# Altium integrated library Analog Devices Data Converters Digital-to-Analog Converters.IntLib: 2231 symbols (part 39 of 181)
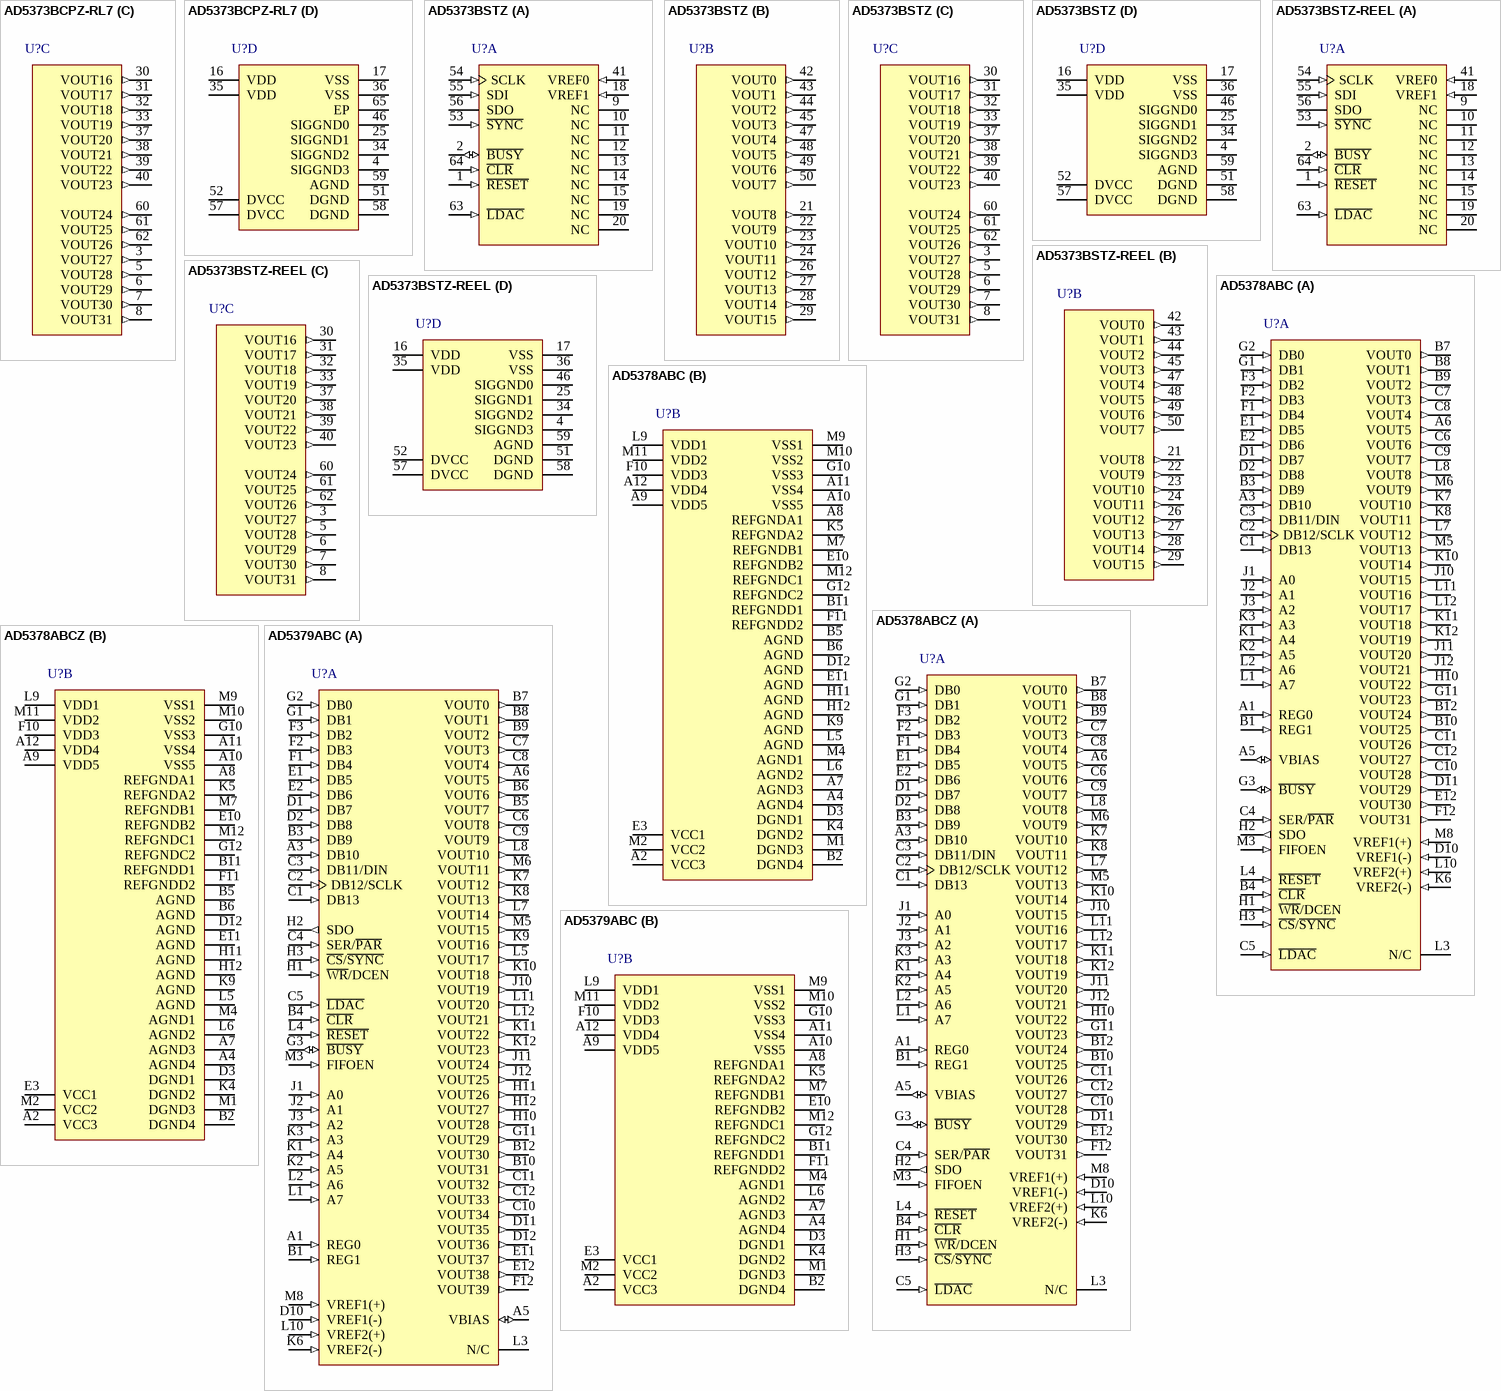
[diagram p152: symbols AD5373BCPZ-RL7 to AD5379ABC]

## AD5379ABC
designator U?
40 Channel 14-Bit Bipolar Voltage Output Digital-to-Analog Converter with Parallel and Serial Interface, -40 to +85 degC, BC-108-2, Tray; Generic Part Number: AD5379; Manufacturer: Analog Devices; PartNumber: AD5379ABC; # DAC Outputs: 40; Max V+: 12.6V; Resolution (Bits): 14; Settling Time: 20µs; Single Supply: No; DatasheetVersion: Rev.B; PackageVersion: 012006-0; PackageReference: BC-108-2; PackageDescription: 108-Ball Chip Scale Package Ball Grid Array [CSP_BGA]; Supplier 1: Digi-Key; Supplier Part Number 1: AD5379ABC-ND; Supplier 2: Mouser; Supplier Part Number 2: 584-AD5379ABC; Packing: Tray; RoHS: N; Mounting Technology: Surface Mount; Code_JEDEC: MO-192-AAD-1; ComponentLink1Description: Manufacturer URL; ComponentLink1URL: http://www.analog.com/en/index.html; ComponentLink2Description: Datasheet; ComponentLink2URL: http://www.analog.com/static/imported-files/data_sheets/AD5379.pdf; ComponentLink3Description: Package Specification; ComponentLink3URL: http://www.analog.com/static/imported-files/packages/PKG_PDF/CSPBGA%20(BC)/BC_108_2.pdf; ComponentLink4Description: Product URL; ComponentLink4URL: http://www.analog.com/en/digital-to-analog-converters/da-converters/ad5379/products/product.html
footprint BC-108-2 (BGA, 108-Leads, Body 13x13mm, Pitch 1mm)
part A pins: A1 REG0 (in) "Parallel Interface Register Select Input. This pin is used together with REG1 to select data registers, gain registers, offset registers, increment/decrement mode, or the soft reset function. See Table 11.", A3 DB10 (in) "Parallel Data Input. The AD5379 can accept a straight 14-bit parallel word on DB0 to DB13, where DB13 is the MSB and DB0 is the LSB.", A5 VBIAS (io) "DAC Bias Voltage Input/Output. This pin provides an access to the on-chip voltage generator voltage and is provided for bypassing and overdriving purposes only. If VREF(+) > 4.25 V, VBIAS must be pulled high externally to an (See Datasheet)", A6 VOUT5 (out) "DAC Output. Buffered analog outputs for each of the 40 DAC channels. Each analog output is capable of driving an output load of 5 kohm to ground. Typical output impedance of these amplifiers is 1 ohm.", B1 REG1 (in) "Parallel Interface Register Select Input.", B3 DB9 (in) "Parallel Data Input. The AD5379 can accept a straight 14-bit parallel word on DB0 to DB13, where DB13 is the MSB and DB0 is the LSB.", B4 ~{CLR} (in) "Asynchronous Clear Input (Level Sensitive, Active Low). When C\L\R\ is low, the input to each of the DAC output buffer stages, VOUT0 to VOUT39, is switched to the externally set potential on the relevant REFGND pin. While (See Datasheet)", B5 VOUT7 (out) "DAC Output. Buffered analog outputs for each of the 40 DAC channels. Each analog output is capable of driving an output load of 5 kohm to ground. Typical output impedance of these amplifiers is 1 ohm.", B6 VOUT6 (out) "DAC Output. Buffered analog outputs for each of the 40 DAC channels. Each analog output is capable of driving an output load of 5 kohm to ground. Typical output impedance of these amplifiers is 1 ohm.", B7 VOUT0 (out) "DAC Output. Buffered analog outputs for each of the 40 DAC channels. Each analog output is capable of driving an output load of 5 kohm to ground. Typical output impedance of these amplifiers is 1 ohm.", B8 VOUT1 (out) "DAC Output. Buffered analog outputs for each of the 40 DAC channels. Each analog output is capable of driving an output load of 5 kohm to ground. Typical output impedance of these amplifiers is 1 ohm.", B9 VOUT2 (out) "DAC Output. Buffered analog outputs for each of the 40 DAC channels. Each analog output is capable of driving an output load of 5 kohm to ground. Typical output impedance of these amplifiers is 1 ohm.", B10 VOUT31 (out) "DAC Output. Buffered analog outputs for each of the 40 DAC channels. Each analog output is capable of driving an output load of 5 kohm to ground. Typical output impedance of these amplifiers is 1 ohm.", B12 VOUT30 (out) "DAC Output. Buffered analog outputs for each of the 40 DAC channels. Each analog output is capable of driving an output load of 5 kohm to ground. Typical output impedance of these amplifiers is 1 ohm.", C1 DB13 (in) "Parallel Data Input. The AD5379 can accept a straight 14-bit parallel word on DB0 to DB13, where DB13 is the MSB and DB0 is the LSB.", C2 DB12/SCLK (in) "Parallel Data Input. The AD5379 can accept a straight 14-bit parallel word on DB0 to DB13, where DB13 is the MSB and DB0 is the LSB. Serial Clock Input. Data is clocked into the shift register on the falling edge of SCLK. (See Datasheet)", C3 DB11/DIN (in) "Parallel Data Input. The AD5379 can accept a straight 14-bit parallel word on DB0 to DB13, where DB13 is the MSB and DB0 is the LSB. Serial Data Input. Data must be valid on the falling edge of SCLK.", C4 SER/~{PAR} (in) "Interface Select Input. This pin allows the user to select whether the serial or parallel interface is used. This pin has an internal 1 Mohm pull-down resistor, meaning that the default state at power-on is parallel mode. If (See Datasheet)", C5 ~{LDAC} (in) "Load DAC Logic Input (Active Low). If \L\D\A\C\ is taken low while B\U\S\Y\ is inactive (high), the contents of the input registers are transferred to the DAC registers and the DAC outputs are updated. If L\D\A\C\ is taken (See Datasheet)", C6 VOUT8 (out) "DAC Output. Buffered analog outputs for each of the 40 DAC channels. Each analog output is capable of driving an output load of 5 kohm to ground. Typical output impedance of these amplifiers is 1 ohm.", C7 VOUT3 (out) "DAC Output. Buffered analog outputs for each of the 40 DAC channels. Each analog output is capable of driving an output load of 5 kohm to ground. Typical output impedance of these amplifiers is 1 ohm.", C8 VOUT4 (out) "DAC Output. Buffered analog outputs for each of the 40 DAC channels. Each analog output is capable of driving an output load of 5 kohm to ground. Typical output impedance of these amplifiers is 1 ohm.", C9 VOUT9 (out) "DAC Output. Buffered analog outputs for each of the 40 DAC channels. Each analog output is capable of driving an output load of 5 kohm to ground. Typical output impedance of these amplifiers is 1 ohm.", C10 VOUT34 (out) "DAC Output. Buffered analog outputs for each of the 40 DAC channels. Each analog output is capable of driving an output load of 5 kohm to ground. Typical output impedance of these amplifiers is 1 ohm.", C11 VOUT32 (out) "DAC Output. Buffered analog outputs for each of the 40 DAC channels. Each analog output is capable of driving an output load of 5 kohm to ground. Typical output impedance of these amplifiers is 1 ohm.", C12 VOUT33 (out) "DAC Output. Buffered analog outputs for each of the 40 DAC channels. Each analog output is capable of driving an output load of 5 kohm to ground. Typical output impedance of these amplifiers is 1 ohm.", D1 DB7 (in) "Parallel Data Input. The AD5379 can accept a straight 14-bit parallel word on DB0 to DB13, where DB13 is the MSB and DB0 is the LSB.", D2 DB8 (in) "Parallel Data Input. The AD5379 can accept a straight 14-bit parallel word on DB0 to DB13, where DB13 is the MSB and DB0 is the LSB.", D10 VREF1(-) (in) "Reference Input for DACs 0 to 7, 10 to 17, 20 to 27, and 30 to 37. These voltages are referred to AGND.", D11 VOUT35 (out) "DAC Output. Buffered analog outputs for each of the 40 DAC channels. Each analog output is capable of driving an output load of 5 kohm to ground. Typical output impedance of these amplifiers is 1 ohm.", D12 VOUT36 (out) "DAC Output. Buffered analog outputs for each of the 40 DAC channels. Each analog output is capable of driving an output load of 5 kohm to ground. Typical output impedance of these amplifiers is 1 ohm.", E1 DB5 (in) "Parallel Data Input. The AD5379 can accept a straight 14-bit parallel word on DB0 to DB13, where DB13 is the MSB and DB0 is the LSB.", E2 DB6 (in) "Parallel Data Input. The AD5379 can accept a straight 14-bit parallel word on DB0 to DB13, where DB13 is the MSB and DB0 is the LSB.", E11 VOUT37 (out) "DAC Output. Buffered analog outputs for each of the 40 DAC channels. Each analog output is capable of driving an output load of 5 kohm to ground. Typical output impedance of these amplifiers is 1 ohm.", E12 VOUT38 (out) "DAC Output. Buffered analog outputs for each of the 40 DAC channels. Each analog output is capable of driving an output load of 5 kohm to ground. Typical output impedance of these amplifiers is 1 ohm.", F1 DB4 (in) "Parallel Data Input. The AD5379 can accept a straight 14-bit parallel word on DB0 to DB13, where DB13 is the MSB and DB0 is the LSB.", F2 DB3 (in) "Parallel Data Input. The AD5379 can accept a straight 14-bit parallel word on DB0 to DB13, where DB13 is the MSB and DB0 is the LSB.", F3 DB2 (in) "Parallel Data Input. The AD5379 can accept a straight 14-bit parallel word on DB0 to DB13, where DB13 is the MSB and DB0 is the LSB.", F12 VOUT39 (out) "DAC Output. Buffered analog outputs for each of the 40 DAC channels. Each analog output is capable of driving an output load of 5 kohm to ground. Typical output impedance of these amplifiers is 1 ohm.", G1 DB1 (in) "Parallel Data Input. The AD5379 can accept a straight 14-bit parallel word on DB0 to DB13, where DB13 is the MSB and DB0 is the LSB.", G2 DB0 (in) "Parallel Data Input. The AD5379 can accept a straight 14-bit parallel word on DB0 to DB13, where DB13 is the MSB and DB0 is the LSB.", G3 ~{BUSY} (io) "Digital Input/Open-Drain Output. This pin must be pulled high with a pull-up resistor for correct operation. B\U\S\Y\ goes low during internal calculations of x2. During this time, the user can continue writing new data to (See Datasheet)", G11 VOUT29 (out) "DAC Output. Buffered analog outputs for each of the 40 DAC channels. Each analog output is capable of driving an output load of 5 kohm to ground. Typical output impedance of these amplifiers is 1 ohm.", H1 ~{WR}/DCEN (in) "Parallel Interface Write Input (Edge Sensitive). The rising edge of W\R\ is used in conjunction with C\S\ low and the address bus inputs to write to the selected AD5379 registers. Daisy-Chain Select Input (Level Sensitive, (See Datasheet)", H2 SDO (out) "Serial Data Output. CMOS output. SDO can be used for daisy-chaining a number of devices together. Data is clocked out on SDO on the rising edge of SCLK and is valid on the falling edge of SCLK.", H3 ~{CS}/~{SYNC} (in) "Parallel Interface Chip Select Input (Level Sensitive, Active Low). If this pin is low, the device is selected. Active Low Input. This is the frame synchronization signal for the serial interface.", H10 VOUT28 (out) "DAC Output. Buffered analog outputs for each of the 40 DAC channels. Each analog output is capable of driving an output load of 5 kohm to ground. Typical output impedance of these amplifiers is 1 ohm.", H11 VOUT26 (out) "DAC Output. Buffered analog outputs for each of the 40 DAC channels. Each analog output is capable of driving an output load of 5 kohm to ground. Typical output impedance of these amplifiers is 1 ohm.", H12 VOUT27 (out) "DAC Output. Buffered analog outputs for each of the 40 DAC channels. Each analog output is capable of driving an output load of 5 kohm to ground. Typical output impedance of these amplifiers is 1 ohm.", J1 A0 (in) "Parallel Address Input. A7 to A4 are decoded to select one group or multiple groups of registers (input registers, gain registers (m) or offset registers (c)) for a data transfer. This pin is used in conjunction with the (See Datasheet)", J2 A1 (in) "Parallel Address Input. A7 to A4 are decoded to select one group or multiple groups of registers (input registers, gain registers (m) or offset registers (c)) for a data transfer. This pin is used in conjunction with the (See Datasheet)", J3 A2 (in) "Parallel Address Input. A7 to A4 are decoded to select one group or multiple groups of registers (input registers, gain registers (m) or offset registers (c)) for a data transfer. This pin is used in conjunction with the (See Datasheet)", J10 VOUT19 (out) "DAC Output. Buffered analog outputs for each of the 40 DAC channels. Each analog output is capable of driving an output load of 5 kohm to ground. Typical output impedance of these amplifiers is 1 ohm.", J11 VOUT24 (out) "DAC Output. Buffered analog outputs for each of the 40 DAC channels. Each analog output is capable of driving an output load of 5 kohm to ground. Typical output impedance of these amplifiers is 1 ohm.", J12 VOUT25 (out) "DAC Output. Buffered analog outputs for each of the 40 DAC channels. Each analog output is capable of driving an output load of 5 kohm to ground. Typical output impedance of these amplifiers is 1 ohm.", K1 A4 (in) "Parallel Address Input. A7 to A4 are decoded to select one group or multiple groups of registers (input registers, gain registers (m) or offset registers (c)) for a data transfer. This pin is used in conjunction with the (See Datasheet)", K2 A5 (in) "Parallel Address Input. A7 to A4 are decoded to select one group or multiple groups of registers (input registers, gain registers (m) or offset registers (c)) for a data transfer. This pin is used in conjunction with the (See Datasheet)", K3 A3 (in) "Parallel Address Input. A7 to A4 are decoded to select one group or multiple groups of registers (input registers, gain registers (m) or offset registers (c)) for a data transfer. This pin is used in conjunction with the (See Datasheet)", K6 VREF2(-) (in) "Reference Input for DACs 8, 9, 18, 19, 28, 29, 38, and 39. These reference voltages are referred to AGND.", K7 VOUT12 (out) "DAC Output. Buffered analog outputs for each of the 40 DAC channels. Each analog output is capable of driving an output load of 5 kohm to ground. Typical output impedance of these amplifiers is 1 ohm.", K8 VOUT13 (out) "DAC Output. Buffered analog outputs for each of the 40 DAC channels. Each analog output is capable of driving an output load of 5 kohm to ground. Typical output impedance of these amplifiers is 1 ohm.", K9 VOUT16 (out) "DAC Output. Buffered analog outputs for each of the 40 DAC channels. Each analog output is capable of driving an output load of 5 kohm to ground. Typical output impedance of these amplifiers is 1 ohm.", K10 VOUT18 (out) "DAC Output. Buffered analog outputs for each of the 40 DAC channels. Each analog output is capable of driving an output load of 5 kohm to ground. Typical output impedance of these amplifiers is 1 ohm.", K11 VOUT22 (out) "DAC Output. Buffered analog outputs for each of the 40 DAC channels. Each analog output is capable of driving an output load of 5 kohm to ground. Typical output impedance of these amplifiers is 1 ohm.", K12 VOUT23 (out) "DAC Output. Buffered analog outputs for each of the 40 DAC channels. Each analog output is capable of driving an output load of 5 kohm to ground. Typical output impedance of these amplifiers is 1 ohm.", L1 A7 (in) "Parallel Address Input. A7 to A4 are decoded to select one group or multiple groups of registers (input registers, gain registers (m) or offset registers (c)) for a data transfer. This pin is used in conjunction with the (See Datasheet)", L2 A6 (in) "Parallel Address Input. A7 to A4 are decoded to select one group or multiple groups of registers (input registers, gain registers (m) or offset registers (c)) for a data transfer. This pin is used in conjunction with the (See Datasheet)", L3 N/C "Do not connect to this pin. Internal active pull-up device on these logic inputs. They default to a logic high condition.", L4 ~{RESET} (in) "Asynchronous Digital Reset Input (Falling Edge Sensitive). If unused, R\E\S\E\T\ may be left unconnected; an internal pull-up resistor (1 Mohm) ensures that the R\E\S\E\T\ input is held high. The function of this pin is (See Datasheet)", L5 VOUT17 (out) "DAC Output. Buffered analog outputs for each of the 40 DAC channels. Each analog output is capable of driving an output load of 5 kohm to ground. Typical output impedance of these amplifiers is 1 ohm.", L7 VOUT14 (out) "DAC Output. Buffered analog outputs for each of the 40 DAC channels. Each analog output is capable of driving an output load of 5 kohm to ground. Typical output impedance of these amplifiers is 1 ohm.", L8 VOUT10 (out) "DAC Output. Buffered analog outputs for each of the 40 DAC channels. Each analog output is capable of driving an output load of 5 kohm to ground. Typical output impedance of these amplifiers is 1 ohm.", L10 VREF2(+) (in) "Reference Input for DACs 8, 9, 18, 19, 28, 29, 38, and 39. These reference voltages are referred to AGND.", L11 VOUT20 (out) "DAC Output. Buffered analog outputs for each of the 40 DAC channels. Each analog output is capable of driving an output load of 5 kohm to ground. Typical output impedance of these amplifiers is 1 ohm.", L12 VOUT21 (out) "DAC Output. Buffered analog outputs for each of the 40 DAC channels. Each analog output is capable of driving an output load of 5 kohm to ground. Typical output impedance of these amplifiers is 1 ohm.", M3 FIFOEN (in) "FIFO Enable (Level Sensitive, Active High). When connected to DVDD, the internal FIFO is enabled, allowing the user to write to the device at full speed. FIFO is available in both serial and parallel mode. The FIFOEN pin has (See Datasheet)", M5 VOUT15 (out) "DAC Output. Buffered analog outputs for each of the 40 DAC channels. Each analog output is capable of driving an output load of 5 kohm to ground. Typical output impedance of these amplifiers is 1 ohm.", M6 VOUT11 (out) "DAC Output. Buffered analog outputs for each of the 40 DAC channels. Each analog output is capable of driving an output load of 5 kohm to ground. Typical output impedance of these amplifiers is 1 ohm.", M8 VREF1(+) (in) "Reference Input for DACs 0 to 7, 10 to 17, 20 to 27, and 30 to 37. These voltages are referred to AGND."
part B pins: A2 VCC3 (power) "Logic Power Supply; 2.7 V to 5.5 V. These pins should be decoupled with 0.1 uF ceramic capacitors and 10 uF capacitors.", A4 AGND4 (power) "Ground for All Analog Circuitry. All AGND pins should be connected to the AGND plane.", A7 AGND3 (power) "Ground for All Analog Circuitry. All AGND pins should be connected to the AGND plane.", A8 REFGNDA1 (power) "Reference Ground for DACs 0 to 7. VOUT0 to VOUT7 are referenced to this voltage.", A9 VDD5 (power) "Positive Analog Power Supply; +11.4 V to +16.5 V for Specified Performance. These pins should be decoupled with 0.1 uF ceramic capacitors and 10 uF capacitors.", A10 VSS5 (power) "Negative Analog Power Supply; -11.4 V to -16.5 V for Specified Performance. These pins should be decoupled with 0.1 uF ceramic capacitors and 10 uF capacitors.", A11 VSS4 (power) "Negative Analog Power Supply; -11.4 V to -16.5 V for Specified Performance. These pins should be decoupled with 0.1 uF ceramic capacitors and 10 uF capacitors.", A12 VDD4 (power) "Positive Analog Power Supply; +11.4 V to +16.5 V for Specified Performance. These pins should be decoupled with 0.1 uF ceramic capacitors and 10 uF capacitors.", B2 DGND4 (power) "Ground for All Digital Circuitry. All DGND pins should be connected to the DGND plane.", B11 REFGNDD1 (power) "Reference Ground for DACs 30 to 37. VOUT30 to VOUT37 are referenced to this voltage.", D3 DGND1 (power) "Ground for All Digital Circuitry. All DGND pins should be connected to the DGND plane.", E3 VCC1 (power) "Logic Power Supply; 2.7 V to 5.5 V. These pins should be decoupled with 0.1 uF ceramic capacitors and 10 uF capacitors.", E10 REFGNDB2 (power) "Reference Ground for DACs 18 and 19. VOUT18 and VOUT19 are referenced to this voltage.", F10 VDD3 (power) "Positive Analog Power Supply; +11.4 V to +16.5 V for Specified Performance. These pins should be decoupled with 0.1 uF ceramic capacitors and 10 uF capacitors.", F11 REFGNDD2 (power) "Reference Ground for DACs 38 and 39. VOUT38 and VOUT39 are referenced to this voltage.", G10 VSS3 (power) "Negative Analog Power Supply; -11.4 V to -16.5 V for Specified Performance. These pins should be decoupled with 0.1 uF ceramic capacitors and 10 uF capacitors.", G12 REFGNDC2 (power) "Reference Ground for DACs 28 and 29. VOUT28 and VOUT29 are referenced to this voltage.", K4 DGND2 (power) "Ground for All Digital Circuitry. All DGND pins should be connected to the DGND plane.", K5 REFGNDA2 (power) "Reference Ground for DACs 8 and 9. VOUT8 and VOUT9 are referenced to this voltage.", L6 AGND2 (power) "Ground for All Analog Circuitry. All AGND pins should be connected to the AGND plane.", L9 VDD1 (power) "Positive Analog Power Supply; +11.4 V to +16.5 V for Specified Performance. These pins should be decoupled with 0.1 uF ceramic capacitors and 10 uF capacitors.", M1 DGND3 (power) "Ground for All Digital Circuitry. All DGND pins should be connected to the DGND plane.", M2 VCC2 (power) "Logic Power Supply; 2.7 V to 5.5 V. These pins should be decoupled with 0.1 uF ceramic capacitors and 10 uF capacitors.", M4 AGND1 (power) "Ground for All Analog Circuitry. All AGND pins should be connected to the AGND plane.", M7 REFGNDB1 (power) "Reference Ground for DACs 10 to 17. VOUT10 to VOUT17 are referenced to this voltage.", M9 VSS1 (power) "Negative Analog Power Supply; -11.4 V to -16.5 V for Specified Performance. These pins should be decoupled with 0.1 uF ceramic capacitors and 10 uF capacitors.", M10 VSS2 (power) "Negative Analog Power Supply; -11.4 V to -16.5 V for Specified Performance. These pins should be decoupled with 0.1 uF ceramic capacitors and 10 uF capacitors.", M11 VDD2 (power) "Positive Analog Power Supply; +11.4 V to +16.5 V for Specified Performance. These pins should be decoupled with 0.1 uF ceramic capacitors and 10 uF capacitors.", M12 REFGNDC1 (power) "Reference Ground for DACs 20 to 27. VOUT20 to VOUT27 are referenced to this voltage."

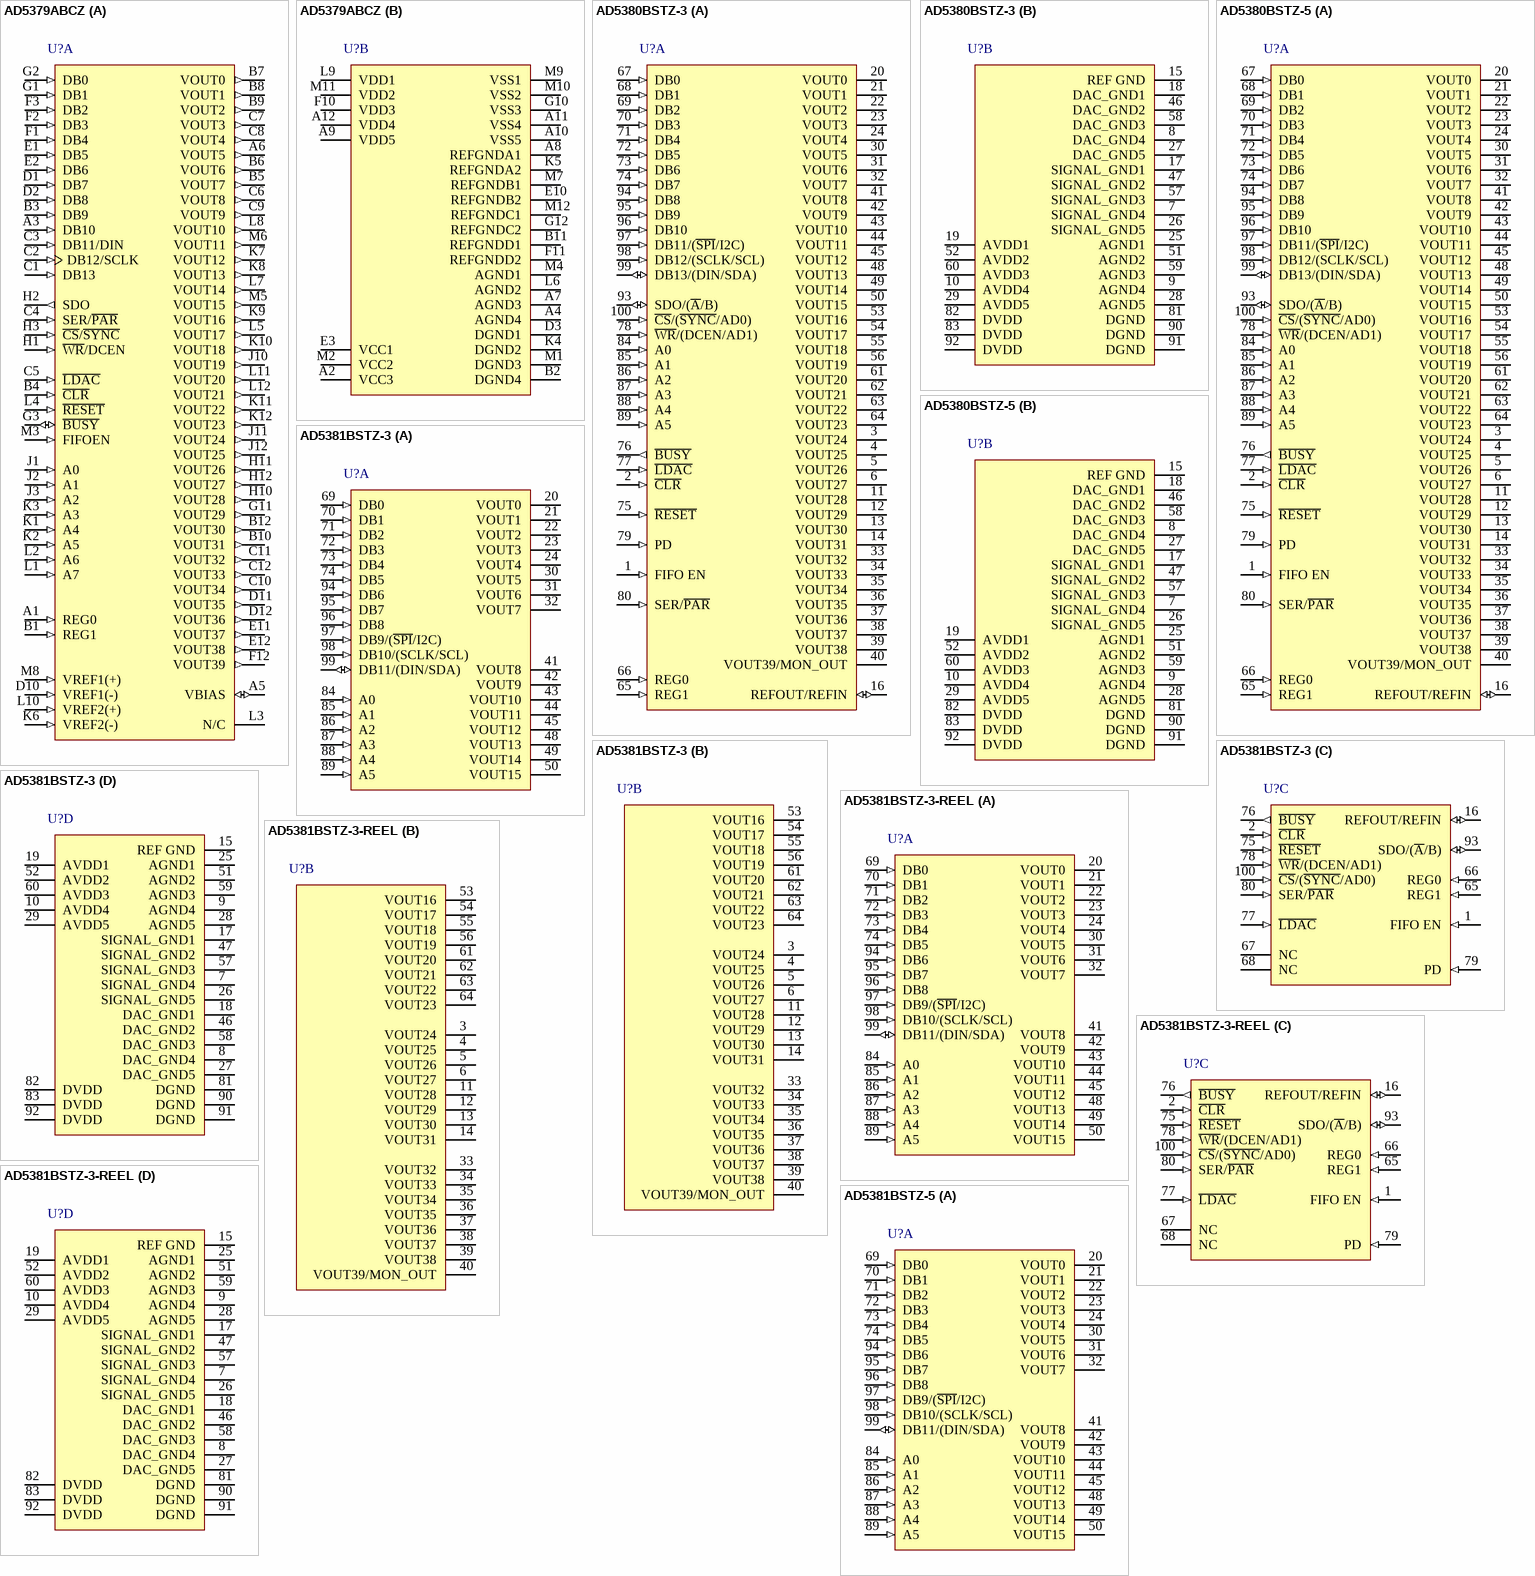
[diagram p23: symbols AD5379ABCZ to AD5381BSTZ-5]

## AD5379ABCZ
designator U?
40 Channel 14-Bit Bipolar Voltage Output Digital-to-Analog Converter with Parallel and Serial Interface, -40 to +85 degC, BC-108-2, Pb-Free, Tray; Generic Part Number: AD5379; Manufacturer: Analog Devices; PartNumber: AD5379ABCZ; # DAC Outputs: 40; Max V+: 12.6V; Resolution (Bits): 14; Settling Time: 20µs; Single Supply: No; DatasheetVersion: Rev.B; PackageVersion: 012006-0; PackageReference: BC-108-2; PackageDescription: 108-Ball Chip Scale Package Ball Grid Array [CSP_BGA]; Supplier 1: Digi-Key; Supplier Part Number 1: AD5379ABCZ-ND; Supplier 2: Mouser; Supplier Part Number 2: 584-AD5379ABCZ; Packing: Tray; RoHS: Y; Mounting Technology: Surface Mount; Code_JEDEC: MO-192-AAD-1; ComponentLink1Description: Manufacturer URL; ComponentLink1URL: http://www.analog.com/en/index.html; ComponentLink2Description: Datasheet; ComponentLink2URL: http://www.analog.com/static/imported-files/data_sheets/AD5379.pdf; ComponentLink3Description: Package Specification; ComponentLink3URL: http://www.analog.com/static/imported-files/packages/PKG_PDF/CSPBGA%20(BC)/BC_108_2.pdf; ComponentLink4Description: Product URL; ComponentLink4URL: http://www.analog.com/en/digital-to-analog-converters/da-converters/ad5379/products/product.html
footprint BC-108-2 (BGA, 108-Leads, Body 13x13mm, Pitch 1mm)
part A pins: A1 REG0 (in) "Parallel Interface Register Select Input. This pin is used together with REG1 to select data registers, gain registers, offset registers, increment/decrement mode, or the soft reset function. See Table 11.", A3 DB10 (in) "Parallel Data Input. The AD5379 can accept a straight 14-bit parallel word on DB0 to DB13, where DB13 is the MSB and DB0 is the LSB.", A5 VBIAS (io) "DAC Bias Voltage Input/Output. This pin provides an access to the on-chip voltage generator voltage and is provided for bypassing and overdriving purposes only. If VREF(+) > 4.25 V, VBIAS must be pulled high externally to an (See Datasheet)", A6 VOUT5 (out) "DAC Output. Buffered analog outputs for each of the 40 DAC channels. Each analog output is capable of driving an output load of 5 kohm to ground. Typical output impedance of these amplifiers is 1 ohm.", B1 REG1 (in) "Parallel Interface Register Select Input.", B3 DB9 (in) "Parallel Data Input. The AD5379 can accept a straight 14-bit parallel word on DB0 to DB13, where DB13 is the MSB and DB0 is the LSB.", B4 ~{CLR} (in) "Asynchronous Clear Input (Level Sensitive, Active Low). When C\L\R\ is low, the input to each of the DAC output buffer stages, VOUT0 to VOUT39, is switched to the externally set potential on the relevant REFGND pin. While (See Datasheet)", B5 VOUT7 (out) "DAC Output. Buffered analog outputs for each of the 40 DAC channels. Each analog output is capable of driving an output load of 5 kohm to ground. Typical output impedance of these amplifiers is 1 ohm.", B6 VOUT6 (out) "DAC Output. Buffered analog outputs for each of the 40 DAC channels. Each analog output is capable of driving an output load of 5 kohm to ground. Typical output impedance of these amplifiers is 1 ohm.", B7 VOUT0 (out) "DAC Output. Buffered analog outputs for each of the 40 DAC channels. Each analog output is capable of driving an output load of 5 kohm to ground. Typical output impedance of these amplifiers is 1 ohm.", B8 VOUT1 (out) "DAC Output. Buffered analog outputs for each of the 40 DAC channels. Each analog output is capable of driving an output load of 5 kohm to ground. Typical output impedance of these amplifiers is 1 ohm.", B9 VOUT2 (out) "DAC Output. Buffered analog outputs for each of the 40 DAC channels. Each analog output is capable of driving an output load of 5 kohm to ground. Typical output impedance of these amplifiers is 1 ohm.", B10 VOUT31 (out) "DAC Output. Buffered analog outputs for each of the 40 DAC channels. Each analog output is capable of driving an output load of 5 kohm to ground. Typical output impedance of these amplifiers is 1 ohm.", B12 VOUT30 (out) "DAC Output. Buffered analog outputs for each of the 40 DAC channels. Each analog output is capable of driving an output load of 5 kohm to ground. Typical output impedance of these amplifiers is 1 ohm.", C1 DB13 (in) "Parallel Data Input. The AD5379 can accept a straight 14-bit parallel word on DB0 to DB13, where DB13 is the MSB and DB0 is the LSB.", C2 DB12/SCLK (in) "Parallel Data Input. The AD5379 can accept a straight 14-bit parallel word on DB0 to DB13, where DB13 is the MSB and DB0 is the LSB. Serial Clock Input. Data is clocked into the shift register on the falling edge of SCLK. (See Datasheet)", C3 DB11/DIN (in) "Parallel Data Input. The AD5379 can accept a straight 14-bit parallel word on DB0 to DB13, where DB13 is the MSB and DB0 is the LSB. Serial Data Input. Data must be valid on the falling edge of SCLK.", C4 SER/~{PAR} (in) "Interface Select Input. This pin allows the user to select whether the serial or parallel interface is used. This pin has an internal 1 Mohm pull-down resistor, meaning that the default state at power-on is parallel mode. If (See Datasheet)", C5 ~{LDAC} (in) "Load DAC Logic Input (Active Low). If \L\D\A\C\ is taken low while B\U\S\Y\ is inactive (high), the contents of the input registers are transferred to the DAC registers and the DAC outputs are updated. If L\D\A\C\ is taken (See Datasheet)", C6 VOUT8 (out) "DAC Output. Buffered analog outputs for each of the 40 DAC channels. Each analog output is capable of driving an output load of 5 kohm to ground. Typical output impedance of these amplifiers is 1 ohm.", C7 VOUT3 (out) "DAC Output. Buffered analog outputs for each of the 40 DAC channels. Each analog output is capable of driving an output load of 5 kohm to ground. Typical output impedance of these amplifiers is 1 ohm.", C8 VOUT4 (out) "DAC Output. Buffered analog outputs for each of the 40 DAC channels. Each analog output is capable of driving an output load of 5 kohm to ground. Typical output impedance of these amplifiers is 1 ohm.", C9 VOUT9 (out) "DAC Output. Buffered analog outputs for each of the 40 DAC channels. Each analog output is capable of driving an output load of 5 kohm to ground. Typical output impedance of these amplifiers is 1 ohm.", C10 VOUT34 (out) "DAC Output. Buffered analog outputs for each of the 40 DAC channels. Each analog output is capable of driving an output load of 5 kohm to ground. Typical output impedance of these amplifiers is 1 ohm.", C11 VOUT32 (out) "DAC Output. Buffered analog outputs for each of the 40 DAC channels. Each analog output is capable of driving an output load of 5 kohm to ground. Typical output impedance of these amplifiers is 1 ohm.", C12 VOUT33 (out) "DAC Output. Buffered analog outputs for each of the 40 DAC channels. Each analog output is capable of driving an output load of 5 kohm to ground. Typical output impedance of these amplifiers is 1 ohm.", D1 DB7 (in) "Parallel Data Input. The AD5379 can accept a straight 14-bit parallel word on DB0 to DB13, where DB13 is the MSB and DB0 is the LSB.", D2 DB8 (in) "Parallel Data Input. The AD5379 can accept a straight 14-bit parallel word on DB0 to DB13, where DB13 is the MSB and DB0 is the LSB.", D10 VREF1(-) (in) "Reference Input for DACs 0 to 7, 10 to 17, 20 to 27, and 30 to 37. These voltages are referred to AGND.", D11 VOUT35 (out) "DAC Output. Buffered analog outputs for each of the 40 DAC channels. Each analog output is capable of driving an output load of 5 kohm to ground. Typical output impedance of these amplifiers is 1 ohm.", D12 VOUT36 (out) "DAC Output. Buffered analog outputs for each of the 40 DAC channels. Each analog output is capable of driving an output load of 5 kohm to ground. Typical output impedance of these amplifiers is 1 ohm.", E1 DB5 (in) "Parallel Data Input. The AD5379 can accept a straight 14-bit parallel word on DB0 to DB13, where DB13 is the MSB and DB0 is the LSB.", E2 DB6 (in) "Parallel Data Input. The AD5379 can accept a straight 14-bit parallel word on DB0 to DB13, where DB13 is the MSB and DB0 is the LSB.", E11 VOUT37 (out) "DAC Output. Buffered analog outputs for each of the 40 DAC channels. Each analog output is capable of driving an output load of 5 kohm to ground. Typical output impedance of these amplifiers is 1 ohm.", E12 VOUT38 (out) "DAC Output. Buffered analog outputs for each of the 40 DAC channels. Each analog output is capable of driving an output load of 5 kohm to ground. Typical output impedance of these amplifiers is 1 ohm.", F1 DB4 (in) "Parallel Data Input. The AD5379 can accept a straight 14-bit parallel word on DB0 to DB13, where DB13 is the MSB and DB0 is the LSB.", F2 DB3 (in) "Parallel Data Input. The AD5379 can accept a straight 14-bit parallel word on DB0 to DB13, where DB13 is the MSB and DB0 is the LSB.", F3 DB2 (in) "Parallel Data Input. The AD5379 can accept a straight 14-bit parallel word on DB0 to DB13, where DB13 is the MSB and DB0 is the LSB.", F12 VOUT39 (out) "DAC Output. Buffered analog outputs for each of the 40 DAC channels. Each analog output is capable of driving an output load of 5 kohm to ground. Typical output impedance of these amplifiers is 1 ohm.", G1 DB1 (in) "Parallel Data Input. The AD5379 can accept a straight 14-bit parallel word on DB0 to DB13, where DB13 is the MSB and DB0 is the LSB.", G2 DB0 (in) "Parallel Data Input. The AD5379 can accept a straight 14-bit parallel word on DB0 to DB13, where DB13 is the MSB and DB0 is the LSB.", G3 ~{BUSY} (io) "Digital Input/Open-Drain Output. This pin must be pulled high with a pull-up resistor for correct operation. B\U\S\Y\ goes low during internal calculations of x2. During this time, the user can continue writing new data to (See Datasheet)", G11 VOUT29 (out) "DAC Output. Buffered analog outputs for each of the 40 DAC channels. Each analog output is capable of driving an output load of 5 kohm to ground. Typical output impedance of these amplifiers is 1 ohm.", H1 ~{WR}/DCEN (in) "Parallel Interface Write Input (Edge Sensitive). The rising edge of W\R\ is used in conjunction with C\S\ low and the address bus inputs to write to the selected AD5379 registers. Daisy-Chain Select Input (Level Sensitive, (See Datasheet)", H2 SDO (out) "Serial Data Output. CMOS output. SDO can be used for daisy-chaining a number of devices together. Data is clocked out on SDO on the rising edge of SCLK and is valid on the falling edge of SCLK.", H3 ~{CS}/~{SYNC} (in) "Parallel Interface Chip Select Input (Level Sensitive, Active Low). If this pin is low, the device is selected. Active Low Input. This is the frame synchronization signal for the serial interface.", H10 VOUT28 (out) "DAC Output. Buffered analog outputs for each of the 40 DAC channels. Each analog output is capable of driving an output load of 5 kohm to ground. Typical output impedance of these amplifiers is 1 ohm.", H11 VOUT26 (out) "DAC Output. Buffered analog outputs for each of the 40 DAC channels. Each analog output is capable of driving an output load of 5 kohm to ground. Typical output impedance of these amplifiers is 1 ohm.", H12 VOUT27 (out) "DAC Output. Buffered analog outputs for each of the 40 DAC channels. Each analog output is capable of driving an output load of 5 kohm to ground. Typical output impedance of these amplifiers is 1 ohm.", J1 A0 (in) "Parallel Address Input. A7 to A4 are decoded to select one group or multiple groups of registers (input registers, gain registers (m) or offset registers (c)) for a data transfer. This pin is used in conjunction with the (See Datasheet)", J2 A1 (in) "Parallel Address Input. A7 to A4 are decoded to select one group or multiple groups of registers (input registers, gain registers (m) or offset registers (c)) for a data transfer. This pin is used in conjunction with the (See Datasheet)", J3 A2 (in) "Parallel Address Input. A7 to A4 are decoded to select one group or multiple groups of registers (input registers, gain registers (m) or offset registers (c)) for a data transfer. This pin is used in conjunction with the (See Datasheet)", J10 VOUT19 (out) "DAC Output. Buffered analog outputs for each of the 40 DAC channels. Each analog output is capable of driving an output load of 5 kohm to ground. Typical output impedance of these amplifiers is 1 ohm.", J11 VOUT24 (out) "DAC Output. Buffered analog outputs for each of the 40 DAC channels. Each analog output is capable of driving an output load of 5 kohm to ground. Typical output impedance of these amplifiers is 1 ohm.", J12 VOUT25 (out) "DAC Output. Buffered analog outputs for each of the 40 DAC channels. Each analog output is capable of driving an output load of 5 kohm to ground. Typical output impedance of these amplifiers is 1 ohm.", K1 A4 (in) "Parallel Address Input. A7 to A4 are decoded to select one group or multiple groups of registers (input registers, gain registers (m) or offset registers (c)) for a data transfer. This pin is used in conjunction with the (See Datasheet)", K2 A5 (in) "Parallel Address Input. A7 to A4 are decoded to select one group or multiple groups of registers (input registers, gain registers (m) or offset registers (c)) for a data transfer. This pin is used in conjunction with the (See Datasheet)", K3 A3 (in) "Parallel Address Input. A7 to A4 are decoded to select one group or multiple groups of registers (input registers, gain registers (m) or offset registers (c)) for a data transfer. This pin is used in conjunction with the (See Datasheet)", K6 VREF2(-) (in) "Reference Input for DACs 8, 9, 18, 19, 28, 29, 38, and 39. These reference voltages are referred to AGND.", K7 VOUT12 (out) "DAC Output. Buffered analog outputs for each of the 40 DAC channels. Each analog output is capable of driving an output load of 5 kohm to ground. Typical output impedance of these amplifiers is 1 ohm.", K8 VOUT13 (out) "DAC Output. Buffered analog outputs for each of the 40 DAC channels. Each analog output is capable of driving an output load of 5 kohm to ground. Typical output impedance of these amplifiers is 1 ohm.", K9 VOUT16 (out) "DAC Output. Buffered analog outputs for each of the 40 DAC channels. Each analog output is capable of driving an output load of 5 kohm to ground. Typical output impedance of these amplifiers is 1 ohm.", K10 VOUT18 (out) "DAC Output. Buffered analog outputs for each of the 40 DAC channels. Each analog output is capable of driving an output load of 5 kohm to ground. Typical output impedance of these amplifiers is 1 ohm.", K11 VOUT22 (out) "DAC Output. Buffered analog outputs for each of the 40 DAC channels. Each analog output is capable of driving an output load of 5 kohm to ground. Typical output impedance of these amplifiers is 1 ohm.", K12 VOUT23 (out) "DAC Output. Buffered analog outputs for each of the 40 DAC channels. Each analog output is capable of driving an output load of 5 kohm to ground. Typical output impedance of these amplifiers is 1 ohm.", L1 A7 (in) "Parallel Address Input. A7 to A4 are decoded to select one group or multiple groups of registers (input registers, gain registers (m) or offset registers (c)) for a data transfer. This pin is used in conjunction with the (See Datasheet)", L2 A6 (in) "Parallel Address Input. A7 to A4 are decoded to select one group or multiple groups of registers (input registers, gain registers (m) or offset registers (c)) for a data transfer. This pin is used in conjunction with the (See Datasheet)", L3 N/C "Do not connect to this pin. Internal active pull-up device on these logic inputs. They default to a logic high condition.", L4 ~{RESET} (in) "Asynchronous Digital Reset Input (Falling Edge Sensitive). If unused, R\E\S\E\T\ may be left unconnected; an internal pull-up resistor (1 Mohm) ensures that the R\E\S\E\T\ input is held high. The function of this pin is (See Datasheet)", L5 VOUT17 (out) "DAC Output. Buffered analog outputs for each of the 40 DAC channels. Each analog output is capable of driving an output load of 5 kohm to ground. Typical output impedance of these amplifiers is 1 ohm.", L7 VOUT14 (out) "DAC Output. Buffered analog outputs for each of the 40 DAC channels. Each analog output is capable of driving an output load of 5 kohm to ground. Typical output impedance of these amplifiers is 1 ohm.", L8 VOUT10 (out) "DAC Output. Buffered analog outputs for each of the 40 DAC channels. Each analog output is capable of driving an output load of 5 kohm to ground. Typical output impedance of these amplifiers is 1 ohm.", L10 VREF2(+) (in) "Reference Input for DACs 8, 9, 18, 19, 28, 29, 38, and 39. These reference voltages are referred to AGND.", L11 VOUT20 (out) "DAC Output. Buffered analog outputs for each of the 40 DAC channels. Each analog output is capable of driving an output load of 5 kohm to ground. Typical output impedance of these amplifiers is 1 ohm.", L12 VOUT21 (out) "DAC Output. Buffered analog outputs for each of the 40 DAC channels. Each analog output is capable of driving an output load of 5 kohm to ground. Typical output impedance of these amplifiers is 1 ohm.", M3 FIFOEN (in) "FIFO Enable (Level Sensitive, Active High). When connected to DVDD, the internal FIFO is enabled, allowing the user to write to the device at full speed. FIFO is available in both serial and parallel mode. The FIFOEN pin has (See Datasheet)", M5 VOUT15 (out) "DAC Output. Buffered analog outputs for each of the 40 DAC channels. Each analog output is capable of driving an output load of 5 kohm to ground. Typical output impedance of these amplifiers is 1 ohm.", M6 VOUT11 (out) "DAC Output. Buffered analog outputs for each of the 40 DAC channels. Each analog output is capable of driving an output load of 5 kohm to ground. Typical output impedance of these amplifiers is 1 ohm.", M8 VREF1(+) (in) "Reference Input for DACs 0 to 7, 10 to 17, 20 to 27, and 30 to 37. These voltages are referred to AGND."
part B pins: A2 VCC3 (power) "Logic Power Supply; 2.7 V to 5.5 V. These pins should be decoupled with 0.1 uF ceramic capacitors and 10 uF capacitors.", A4 AGND4 (power) "Ground for All Analog Circuitry. All AGND pins should be connected to the AGND plane.", A7 AGND3 (power) "Ground for All Analog Circuitry. All AGND pins should be connected to the AGND plane.", A8 REFGNDA1 (power) "Reference Ground for DACs 0 to 7. VOUT0 to VOUT7 are referenced to this voltage.", A9 VDD5 (power) "Positive Analog Power Supply; +11.4 V to +16.5 V for Specified Performance. These pins should be decoupled with 0.1 uF ceramic capacitors and 10 uF capacitors.", A10 VSS5 (power) "Negative Analog Power Supply; -11.4 V to -16.5 V for Specified Performance. These pins should be decoupled with 0.1 uF ceramic capacitors and 10 uF capacitors.", A11 VSS4 (power) "Negative Analog Power Supply; -11.4 V to -16.5 V for Specified Performance. These pins should be decoupled with 0.1 uF ceramic capacitors and 10 uF capacitors.", A12 VDD4 (power) "Positive Analog Power Supply; +11.4 V to +16.5 V for Specified Performance. These pins should be decoupled with 0.1 uF ceramic capacitors and 10 uF capacitors.", B2 DGND4 (power) "Ground for All Digital Circuitry. All DGND pins should be connected to the DGND plane.", B11 REFGNDD1 (power) "Reference Ground for DACs 30 to 37. VOUT30 to VOUT37 are referenced to this voltage.", D3 DGND1 (power) "Ground for All Digital Circuitry. All DGND pins should be connected to the DGND plane.", E3 VCC1 (power) "Logic Power Supply; 2.7 V to 5.5 V. These pins should be decoupled with 0.1 uF ceramic capacitors and 10 uF capacitors.", E10 REFGNDB2 (power) "Reference Ground for DACs 18 and 19. VOUT18 and VOUT19 are referenced to this voltage.", F10 VDD3 (power) "Positive Analog Power Supply; +11.4 V to +16.5 V for Specified Performance. These pins should be decoupled with 0.1 uF ceramic capacitors and 10 uF capacitors.", F11 REFGNDD2 (power) "Reference Ground for DACs 38 and 39. VOUT38 and VOUT39 are referenced to this voltage.", G10 VSS3 (power) "Negative Analog Power Supply; -11.4 V to -16.5 V for Specified Performance. These pins should be decoupled with 0.1 uF ceramic capacitors and 10 uF capacitors.", G12 REFGNDC2 (power) "Reference Ground for DACs 28 and 29. VOUT28 and VOUT29 are referenced to this voltage.", K4 DGND2 (power) "Ground for All Digital Circuitry. All DGND pins should be connected to the DGND plane.", K5 REFGNDA2 (power) "Reference Ground for DACs 8 and 9. VOUT8 and VOUT9 are referenced to this voltage.", L6 AGND2 (power) "Ground for All Analog Circuitry. All AGND pins should be connected to the AGND plane.", L9 VDD1 (power) "Positive Analog Power Supply; +11.4 V to +16.5 V for Specified Performance. These pins should be decoupled with 0.1 uF ceramic capacitors and 10 uF capacitors.", M1 DGND3 (power) "Ground for All Digital Circuitry. All DGND pins should be connected to the DGND plane.", M2 VCC2 (power) "Logic Power Supply; 2.7 V to 5.5 V. These pins should be decoupled with 0.1 uF ceramic capacitors and 10 uF capacitors.", M4 AGND1 (power) "Ground for All Analog Circuitry. All AGND pins should be connected to the AGND plane.", M7 REFGNDB1 (power) "Reference Ground for DACs 10 to 17. VOUT10 to VOUT17 are referenced to this voltage.", M9 VSS1 (power) "Negative Analog Power Supply; -11.4 V to -16.5 V for Specified Performance. These pins should be decoupled with 0.1 uF ceramic capacitors and 10 uF capacitors.", M10 VSS2 (power) "Negative Analog Power Supply; -11.4 V to -16.5 V for Specified Performance. These pins should be decoupled with 0.1 uF ceramic capacitors and 10 uF capacitors.", M11 VDD2 (power) "Positive Analog Power Supply; +11.4 V to +16.5 V for Specified Performance. These pins should be decoupled with 0.1 uF ceramic capacitors and 10 uF capacitors.", M12 REFGNDC1 (power) "Reference Ground for DACs 20 to 27. VOUT20 to VOUT27 are referenced to this voltage."